# Altium footprint library STM8_DevBoard.PcbLib: 7 footprints
Each footprint in its own frame and in the unit in brackets; x right, y up, seen from the top. Pads: shape width x height; smd on the part's side, far side on the other; paste and mask are expansions set on the pad; w line width, h text height; cw(c..) or ccw(c..) is an arc to the next point about the centre after c.
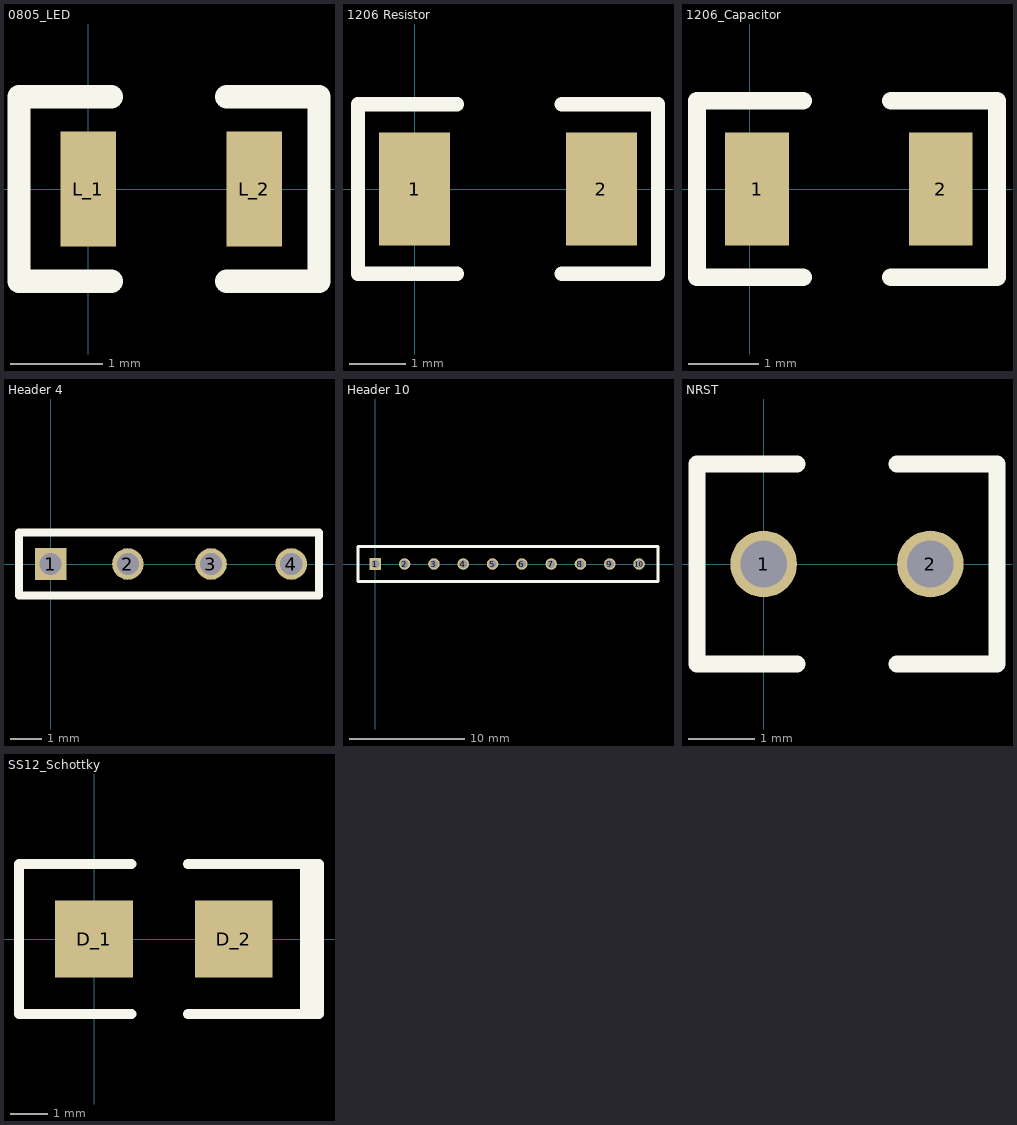
[diagram p0: the footprints below, top view; thin cyan lines are the x and y axes]

## 0805_LED [mm]
pads (2):
  rect 0.6x1.25 smd: L_1(0,0) L_2(1.8,0)
Top Overlay:
  lines w0.254: 0.25,-1 -0.75,-1 -0.75,1 0.25,1 ; 1.5,-1 2.5,-1 2.5,1 1.5,1

## 1206 Resistor [mm]
pads (2):
  rect 1.25x2 smd: 1(0,0) 2(3.3,0)
Top Overlay:
  lines w0.254: 0.75,-1.5 -1,-1.5 -1,-1.25 -1,1.5 0.75,1.5 ; 2.6,-1.5 4.3,-1.5 4.3,1.5 2.6,1.5

## 1206_Capacitor [mm]
pads (2):
  rect 0.9x1.6 smd: 1(0.1,0) 2(2.7,0)
Top Overlay:
  lines w0.254: 0.75,-1.25 -0.75,-1.25 -0.75,1.25 0.75,1.25 ; 2,-1.25 3.5,-1.25 3.5,1.25 3.25,1.25 2,1.25

## Header 4 [mm]
pads (4):
  rect 1x1 hole 0.7: 1(0,0)
  round 1 hole 0.7: 2(2.45,0) 3(5.08,0) 4(7.62,0)
Top Overlay:
  lines w0.254: -1,-1 8.5,-1 8.5,1 -1,1 -1,-1

## Header 10 [mm]
pads (10):
  rect 1x1 hole 0.7: 1(0,0)
  round 1 hole 0.7: 2(2.54,0) 3(5.08,0) 4(7.62,0) 5(10.16,0) 6(12.7,0) 7(15.24,0) 8(17.78,0) 9(20.32,0) 10(22.86,0)
Top Overlay:
  lines w0.254: 0,-1.5 22.5,-1.5 24.5,-1.5 24.5,1.5 22.5,1.5 0.5,1.5 -1.5,1.5 -1.5,-1.5 0.5,-1.5

## NRST [mm]
pads (2):
  round 1 hole 0.7: 1(0,0) 2(2.5,0)
Top Overlay:
  lines w0.254: 0.5,-1.5 -1,-1.5 -1,-1 -1,1.5 0.5,1.5 ; 2,-1.5 3.5,-1.5 3.5,1.5 2,1.5

## SS12_Schottky [mm]
pads (2):
  rect 2.07x2.06 smd: D_1(0,0) D_2(3.73,0)
Top Overlay:
  rectangle: 5.5,-2 6,2
  lines w0.254: 1,-2 -2,-2 -2,2 1,2 ; 2.5,-2 6,-2 6,2 2.5,2